# Altium integrated library BUZ71.IntLib: 1 symbol
Pins are listed as number, name and electrical type; pins without a type are passive.

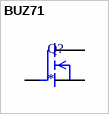
[diagram p0: symbol BUZ71]

## BUZ71
designator Q?
MOSFET TO-220 N-CH 50V 30A; MF: STMicroelectronics; MP: BUZ71; Value: *; SnapEDA_Link: https://www.snapeda.com/parts/BUZ71/STMicroelectronics/view-part/?ref=snap; Availability: Not in stock; Price: None; Package: TO-220-3 ON Semiconductor; Check_prices: https://www.snapeda.com/parts/BUZ71/STMicroelectronics/view-part/?ref=eda
footprint TO220
pins: 1 G, 2 D, 3 S